# EAGLE library part ADAU1450WBCPZ-RL (library DSPs)
IC AUDIO PROCESSOR 72LFCSP Manufacturer's datasheet <https://www.analog.com/media/en/technical-documentation/data-sheets/ADAU1452_1451_1450.pdf>
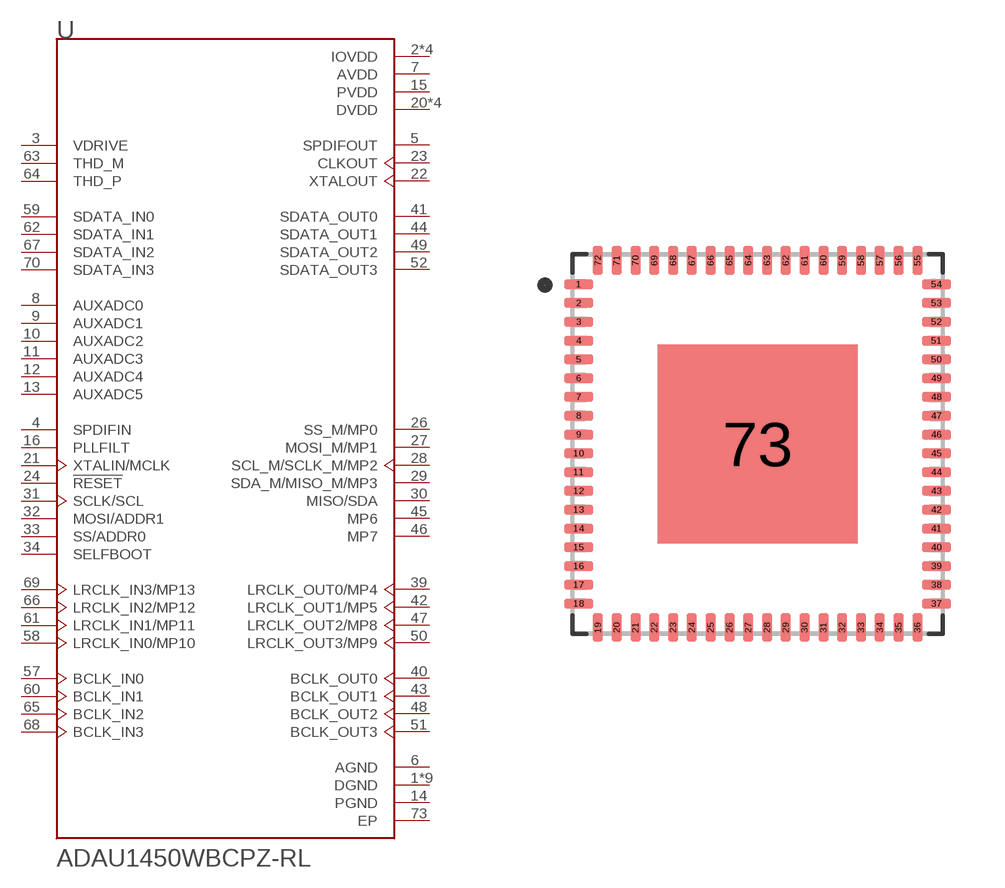
[diagram p11: symbol with the pads of QFN72; footprint QFN72]

Designator prefix U

## ADAU1450WBCPZ-RL (CREATED_BY: PCBLayout.com; DIGIKEY_PN: ADAU1450WBCPZ-RLTR-ND; MANUFACTURER: Analog Devices Inc.; MPN: ADAU1450WBCPZ-RL; PACKAGE: 72-LFCSP)  [QFN72]
1  DGND  pwr
2  IOVDD  pwr
3  VDRIVE  in
4  SPDIFIN  in
5  SPDIFOUT  out
6  AGND  pwr
7  AVDD  pwr
8  AUXADC0  in
9  AUXADC1  in
10  AUXADC2  in
11  AUXADC3  in
12  AUXADC4  in
13  AUXADC5  in
14  PGND  pwr
15  PVDD  pwr
16  PLLFILT  in
17  DGND  pwr
18  IOVDD  pwr
19  DGND  pwr
20  DVDD  pwr
21  XTALIN/MCLK  in
22  XTALOUT  out
23  CLKOUT  out
24  !RESET  in
25  DGND  pwr
26  SS_M/MP0
27  MOSI_M/MP1
28  SCL_M/SCLK_M/MP2
29  SDA_M/MISO_M/MP3
30  MISO/SDA
31  SCLK/SCL  in
32  MOSI/ADDR1  in
33  SS/ADDR0  in
34  SELFBOOT  in
35  DVDD  pwr
36  DGND  pwr
37  DGND  pwr
38  IOVDD  pwr
39  LRCLK_OUT0/MP4
40  BCLK_OUT0
41  SDATA_OUT0  out
42  LRCLK_OUT1/MP5
43  BCLK_OUT1
44  SDATA_OUT1  out
45  MP6
46  MP7
47  LRCLK_OUT2/MP8
48  BCLK_OUT2
49  SDATA_OUT2  out
50  LRCLK_OUT3/MP9
51  BCLK_OUT3
52  SDATA_OUT3  out
53  DVDD  pwr
54  DGND  pwr
55  DGND  pwr
56  IOVDD  pwr
57  BCLK_IN0
58  LRCLK_IN0/MP10
59  SDATA_IN0  in
60  BCLK_IN1
61  LRCLK_IN1/MP11
62  SDATA_IN1  in
63  THD_M  in
64  THD_P  in
65  BCLK_IN2
66  LRCLK_IN2/MP12
67  SDATA_IN2  in
68  BCLK_IN3
69  LRCLK_IN3/MP13
70  SDATA_IN3  in
71  DVDD  pwr
72  DGND  pwr
73  EP  pwr

## Footprint QFN72 (pad centres in mm)
Quad Flat No-Lead (QFN with Tab), 0.50 mm pitch; rect., 18 pin X 18 pin, 10.00 mm L X 9.75 mm W X 1.00 mm H body PCB Libraries Packages
smd 0.76 x 0.26: 1 -4.76,4.25; 2 -4.76,3.75; 3 -4.76,3.25; 4 -4.76,2.75; 5 -4.76,2.25; 6 -4.76,1.75; 7 -4.76,1.25; 8 -4.76,0.75; 9 -4.76,0.25; 10 -4.76,-0.25; 11 -4.76,-0.75; 12 -4.76,-1.25; 13 -4.76,-1.75; 14 -4.76,-2.25; 15 -4.76,-2.75; 16 -4.76,-3.25; 17 -4.76,-3.75; 18 -4.76,-4.25; 37 4.76,-4.25; 38 4.76,-3.75; 39 4.76,-3.25; 40 4.76,-2.75; 41 4.76,-2.25; 42 4.76,-1.75; 43 4.76,-1.25; 44 4.76,-0.75; 45 4.76,-0.25; 46 4.76,0.25; 47 4.76,0.75; 48 4.76,1.25; 49 4.76,1.75; 50 4.76,2.25; 51 4.76,2.75; 52 4.76,3.25; 53 4.76,3.75; 54 4.76,4.25
smd 0.26 x 0.76: 19 -4.25,-4.885; 20 -3.75,-4.885; 21 -3.25,-4.885; 22 -2.75,-4.885; 23 -2.25,-4.885; 24 -1.75,-4.885; 25 -1.25,-4.885; 26 -0.75,-4.885; 27 -0.25,-4.885; 28 0.25,-4.885; 29 0.75,-4.885; 30 1.25,-4.885; 31 1.75,-4.885; 32 2.25,-4.885; 33 2.75,-4.885; 34 3.25,-4.885; 35 3.75,-4.885; 36 4.25,-4.885; 55 4.25,4.885; 56 3.75,4.885; 57 3.25,4.885; 58 2.75,4.885; 59 2.25,4.885; 60 1.75,4.885; 61 1.25,4.885; 62 0.75,4.885; 63 0.25,4.885; 64 -0.25,4.885; 65 -0.75,4.885; 66 -1.25,4.885; 67 -1.75,4.885; 68 -2.25,4.885; 69 -2.75,4.885; 70 -3.25,4.885; 71 -3.75,4.885; 72 -4.25,4.885
smd 5.3 x 5.3: 73 0,0